# Altium footprint library mw.PcbLib: 252 footprints (part 2 of 16)
Each footprint in its own frame and in the unit in brackets; x right, y up, seen from the top. Pads: shape width x height; smd on the part's side, far side on the other; paste and mask are expansions set on the pad; w line width, h text height; cw(c..) or ccw(c..) is an arc to the next point about the centre after c.
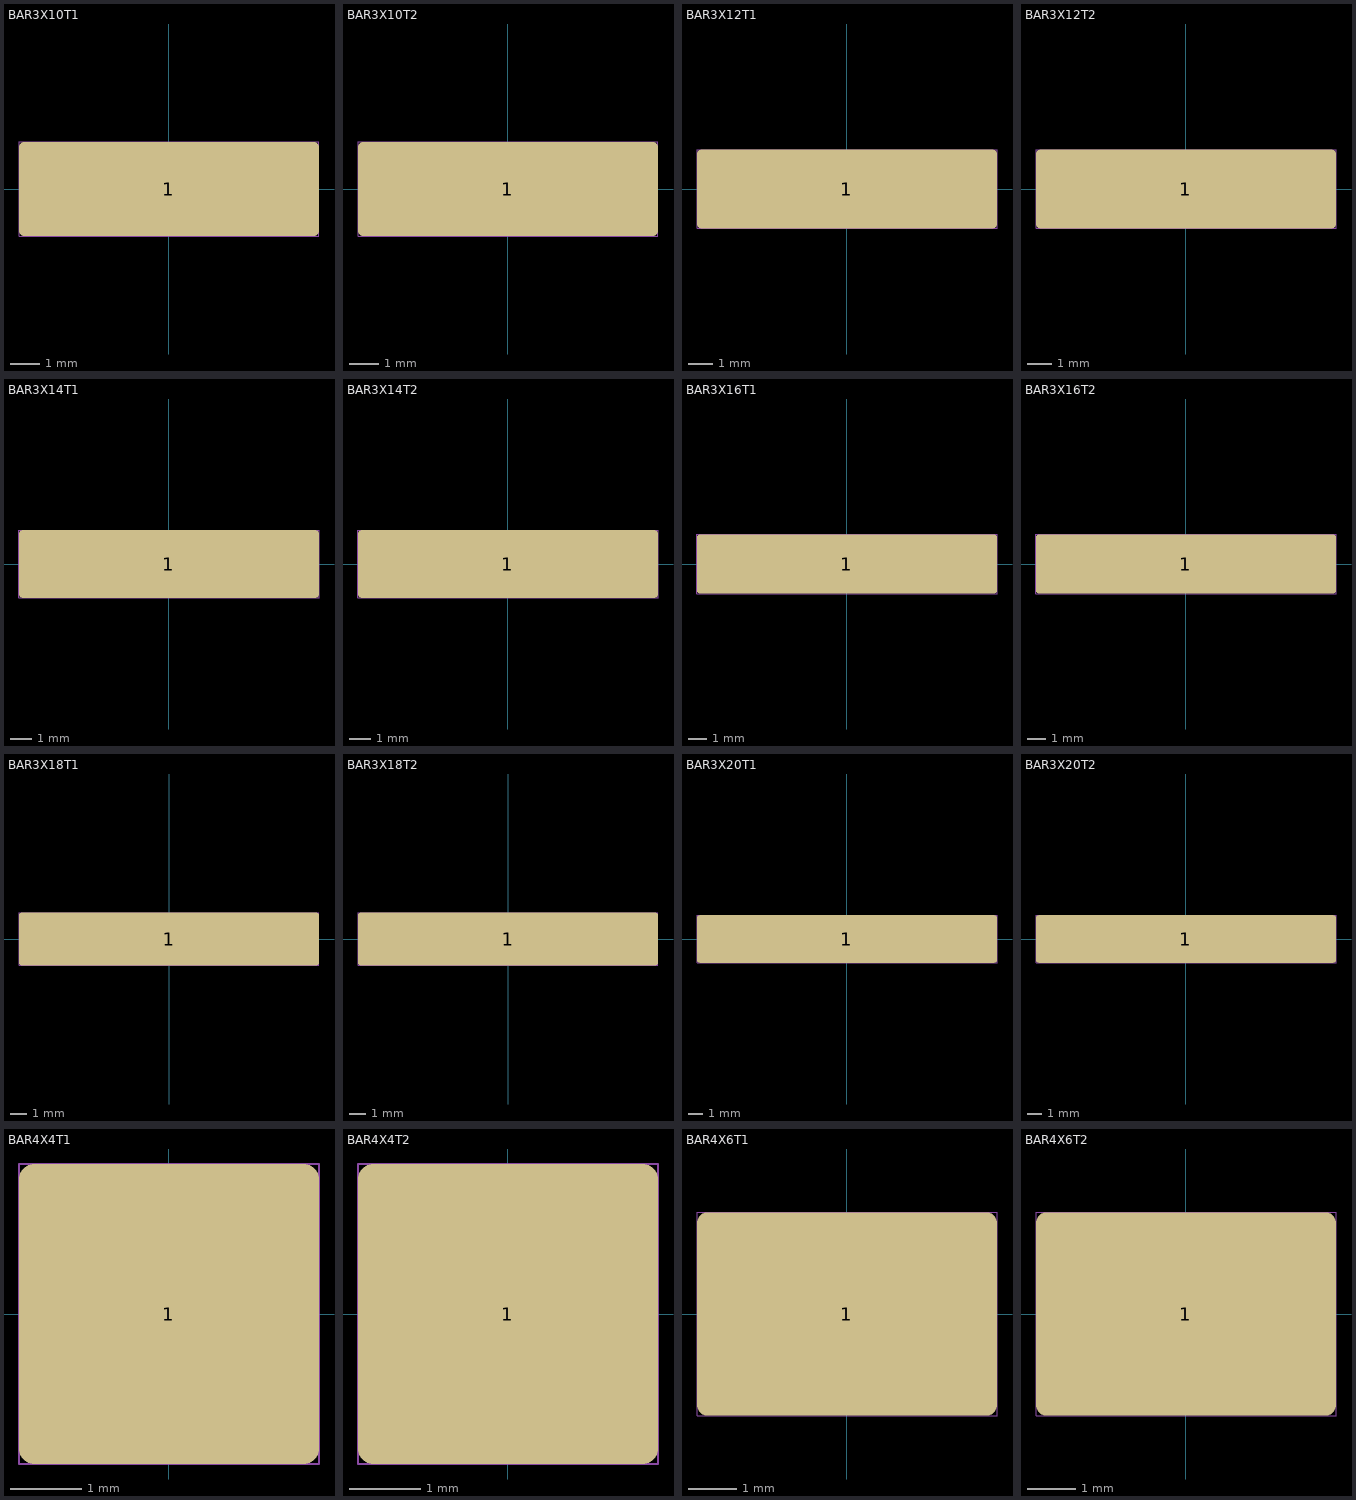
[diagram p1: the footprints below, top view; thin cyan lines are the x and y axes]

## BAR3X10T1 [mm]
pads (1):
  rrect10% 10.2x3.2 smd paste-2539.97: 1(0,0)
Top Paste:
  rectangle: 0.3,-1.3 1.3,-0.3
  rectangle: -1.3,-1.3 -0.3,-0.3
  rectangle: 0.3,0.3 1.3,1.3
  rectangle: -1.3,0.3 -0.3,1.3
  rectangle: 1.9,-1.3 2.9,-0.3
  rectangle: 1.9,0.3 2.9,1.3
  rectangle: -2.9,-1.3 -1.9,-0.3
  rectangle: -2.9,0.3 -1.9,1.3
  rectangle: 3.5,-1.3 4.5,-0.3
  rectangle: 3.5,0.3 4.5,1.3
  rectangle: -4.5,-1.3 -3.5,-0.3
  rectangle: -4.5,0.3 -3.5,1.3
Top Courtyard:
  lines w0.025: -0.635,0 0.635,0 ; 0,-0.635 0,0.635 ; -5.1,-1.6 -5.1,1.6 5.1,1.6 5.1,-1.6 -5.1,-1.6
3D body "BAR3X10T1.step": height 1, standoff 0, extent -5,-1.5 5,1.5

## BAR3X10T2 [mm]
pads (1):
  rrect10% 10.2x3.2 smd paste-2539.97: 1(0,0)
Top Paste:
  rectangle: 0.3,-1.3 1.3,-0.3
  rectangle: -1.3,-1.3 -0.3,-0.3
  rectangle: 0.3,0.3 1.3,1.3
  rectangle: -1.3,0.3 -0.3,1.3
  rectangle: 1.9,-1.3 2.9,-0.3
  rectangle: 1.9,0.3 2.9,1.3
  rectangle: -2.9,-1.3 -1.9,-0.3
  rectangle: -2.9,0.3 -1.9,1.3
  rectangle: 3.5,-1.3 4.5,-0.3
  rectangle: 3.5,0.3 4.5,1.3
  rectangle: -4.5,-1.3 -3.5,-0.3
  rectangle: -4.5,0.3 -3.5,1.3
Top Courtyard:
  lines w0.025: -0.635,0 0.635,0 ; 0,-0.635 0,0.635 ; -5.1,-1.6 5.1,-1.6 5.1,1.6 -5.1,1.6 -5.1,-1.6
3D body "BAR3X10T2.step": height 2, standoff 0, extent -5,-1.5 5,1.5

## BAR3X12T1 [mm]
pads (1):
  rrect10% 12.2x3.2 smd paste-2539.97: 1(0,0)
Top Paste:
  rectangle: 0.3,-1.3 1.3,-0.3
  rectangle: -1.3,-1.3 -0.3,-0.3
  rectangle: 0.3,0.3 1.3,1.3
  rectangle: -1.3,0.3 -0.3,1.3
  rectangle: 1.9,-1.3 2.9,-0.3
  rectangle: 1.9,0.3 2.9,1.3
  rectangle: -2.9,-1.3 -1.9,-0.3
  rectangle: -2.9,0.3 -1.9,1.3
  rectangle: 3.5,-1.3 4.5,-0.3
  rectangle: 3.5,0.3 4.5,1.3
  rectangle: -4.5,-1.3 -3.5,-0.3
  rectangle: -4.5,0.3 -3.5,1.3
Top Courtyard:
  lines w0.025: -0.635,0 0.635,0 ; 0,-0.635 0,0.635 ; -6.1,-1.6 6.1,-1.6 6.1,1.6 -6.1,1.6 -6.1,-1.6
3D body "BAR3X12T1.step": height 1, standoff 0, extent -6,-1.5 6,1.5

## BAR3X12T2 [mm]
pads (1):
  rrect10% 12.2x3.2 smd paste-2539.97: 1(0,0)
Top Paste:
  rectangle: 0.3,-1.3 1.3,-0.3
  rectangle: -1.3,-1.3 -0.3,-0.3
  rectangle: 0.3,0.3 1.3,1.3
  rectangle: -1.3,0.3 -0.3,1.3
  rectangle: 1.9,-1.3 2.9,-0.3
  rectangle: 1.9,0.3 2.9,1.3
  rectangle: -2.9,-1.3 -1.9,-0.3
  rectangle: -2.9,0.3 -1.9,1.3
  rectangle: 3.5,-1.3 4.5,-0.3
  rectangle: 3.5,0.3 4.5,1.3
  rectangle: -4.5,-1.3 -3.5,-0.3
  rectangle: -4.5,0.3 -3.5,1.3
Top Courtyard:
  lines w0.025: -0.635,0 0.635,0 ; 0,-0.635 0,0.635 ; -6.1,-1.6 6.1,-1.6 6.1,1.6 -6.1,1.6 -6.1,-1.6
3D body "BAR3X12T2.step": height 2, standoff 0, extent -6,-1.5 6,1.5

## BAR3X14T1 [mm]
pads (1):
  rrect10% 14.2x3.2 smd paste-2539.97: 1(0,0)
Top Paste:
  rectangle: 0.3,-1.3 1.3,-0.3
  rectangle: -1.3,-1.3 -0.3,-0.3
  rectangle: 0.3,0.3 1.3,1.3
  rectangle: -1.3,0.3 -0.3,1.3
  rectangle: 1.9,-1.3 2.9,-0.3
  rectangle: 1.9,0.3 2.9,1.3
  rectangle: -2.9,-1.3 -1.9,-0.3
  rectangle: -2.9,0.3 -1.9,1.3
  rectangle: 3.5,-1.3 4.5,-0.3
  rectangle: 3.5,0.3 4.5,1.3
  rectangle: -4.5,-1.3 -3.5,-0.3
  rectangle: -4.5,0.3 -3.5,1.3
  rectangle: 5.1,-1.3 6.1,-0.3
  rectangle: 5.1,0.3 6.1,1.3
  rectangle: -6.1,-1.3 -5.1,-0.3
  rectangle: -6.1,0.3 -5.1,1.3
Top Courtyard:
  lines w0.025: -0.635,0 0.635,0 ; 0,-0.635 0,0.635 ; -7.1,-1.6 -7.1,1.6 7.1,1.6 7.1,-1.6 -7.1,-1.6
3D body "BAR3X14T1.step": height 1, standoff 0, extent -7,-1.5 7,1.5

## BAR3X14T2 [mm]
pads (1):
  rrect10% 14.2x3.2 smd paste-2539.97: 1(0,0)
Top Paste:
  rectangle: 0.3,-1.3 1.3,-0.3
  rectangle: -1.3,-1.3 -0.3,-0.3
  rectangle: 0.3,0.3 1.3,1.3
  rectangle: -1.3,0.3 -0.3,1.3
  rectangle: 1.9,-1.3 2.9,-0.3
  rectangle: 1.9,0.3 2.9,1.3
  rectangle: -2.9,-1.3 -1.9,-0.3
  rectangle: -2.9,0.3 -1.9,1.3
  rectangle: 3.5,-1.3 4.5,-0.3
  rectangle: 3.5,0.3 4.5,1.3
  rectangle: -4.5,-1.3 -3.5,-0.3
  rectangle: -4.5,0.3 -3.5,1.3
  rectangle: 5.1,-1.3 6.1,-0.3
  rectangle: 5.1,0.3 6.1,1.3
  rectangle: -6.1,-1.3 -5.1,-0.3
  rectangle: -6.1,0.3 -5.1,1.3
Top Courtyard:
  lines w0.025: -0.635,0 0.635,0 ; 0,-0.635 0,0.635 ; -7.1,-1.6 7.1,-1.6 7.1,1.6 -7.1,1.6 -7.1,-1.6
3D body "BAR3X14T2.step": height 2, standoff 0, extent -7,-1.5 7,1.5

## BAR3X16T1 [mm]
pads (1):
  rrect10% 16.2x3.2 smd paste-2539.97: 1(0,0)
Top Paste:
  rectangle: 0.3,-1.3 1.3,-0.3
  rectangle: -1.3,-1.3 -0.3,-0.3
  rectangle: 0.3,0.3 1.3,1.3
  rectangle: -1.3,0.3 -0.3,1.3
  rectangle: 1.9,-1.3 2.9,-0.3
  rectangle: 1.9,0.3 2.9,1.3
  rectangle: -2.9,-1.3 -1.9,-0.3
  rectangle: -2.9,0.3 -1.9,1.3
  rectangle: 3.5,-1.3 4.5,-0.3
  rectangle: 3.5,0.3 4.5,1.3
  rectangle: -4.5,-1.3 -3.5,-0.3
  rectangle: -4.5,0.3 -3.5,1.3
  rectangle: 5.1,-1.3 6.1,-0.3
  rectangle: 5.1,0.3 6.1,1.3
  rectangle: -6.1,-1.3 -5.1,-0.3
  rectangle: -6.1,0.3 -5.1,1.3
  rectangle: 6.7,-1.3 7.7,-0.3
  rectangle: 6.7,0.3 7.7,1.3
  rectangle: -7.7,-1.3 -6.7,-0.3
  rectangle: -7.7,0.3 -6.7,1.3
Top Courtyard:
  lines w0.025: -0.635,0 0.635,0 ; 0,-0.635 0,0.635 ; -8.1,-1.6 -8.1,1.6 8.1,1.6 8.1,-1.6 -8.1,-1.6
3D body "BAR3X16T1.step": height 1, standoff 0, extent -8,-1.5 8,1.5

## BAR3X16T2 [mm]
pads (1):
  rrect10% 16.2x3.2 smd paste-2539.97: 1(0,0)
Top Paste:
  rectangle: 0.3,-1.3 1.3,-0.3
  rectangle: -1.3,-1.3 -0.3,-0.3
  rectangle: 0.3,0.3 1.3,1.3
  rectangle: -1.3,0.3 -0.3,1.3
  rectangle: 1.9,-1.3 2.9,-0.3
  rectangle: 1.9,0.3 2.9,1.3
  rectangle: -2.9,-1.3 -1.9,-0.3
  rectangle: -2.9,0.3 -1.9,1.3
  rectangle: 3.5,-1.3 4.5,-0.3
  rectangle: 3.5,0.3 4.5,1.3
  rectangle: -4.5,-1.3 -3.5,-0.3
  rectangle: -4.5,0.3 -3.5,1.3
  rectangle: 5.1,-1.3 6.1,-0.3
  rectangle: 5.1,0.3 6.1,1.3
  rectangle: -6.1,-1.3 -5.1,-0.3
  rectangle: -6.1,0.3 -5.1,1.3
  rectangle: 6.7,-1.3 7.7,-0.3
  rectangle: 6.7,0.3 7.7,1.3
  rectangle: -7.7,-1.3 -6.7,-0.3
  rectangle: -7.7,0.3 -6.7,1.3
Top Courtyard:
  lines w0.025: -0.635,0 0.635,0 ; 0,-0.635 0,0.635 ; -8.1,-1.6 8.1,-1.6 8.1,1.6 -8.1,1.6 -8.1,-1.6
3D body "BAR3X16T2.step": height 2, standoff 0, extent -8,-1.5 8,1.5

## BAR3X18T1 [mm]
pads (1):
  rrect10% 18.2x3.2 smd paste-2539.97: 1(0,0)
Top Paste:
  rectangle: 0.3,-1.3 1.3,-0.3
  rectangle: -1.3,-1.3 -0.3,-0.3
  rectangle: 0.3,0.3 1.3,1.3
  rectangle: -1.3,0.3 -0.3,1.3
  rectangle: 1.9,-1.3 2.9,-0.3
  rectangle: 1.9,0.3 2.9,1.3
  rectangle: -2.9,-1.3 -1.9,-0.3
  rectangle: -2.9,0.3 -1.9,1.3
  rectangle: 3.5,-1.3 4.5,-0.3
  rectangle: 3.5,0.3 4.5,1.3
  rectangle: -4.5,-1.3 -3.5,-0.3
  rectangle: -4.5,0.3 -3.5,1.3
  rectangle: 5.1,-1.3 6.1,-0.3
  rectangle: 5.1,0.3 6.1,1.3
  rectangle: -6.1,-1.3 -5.1,-0.3
  rectangle: -6.1,0.3 -5.1,1.3
  rectangle: 6.7,-1.3 7.7,-0.3
  rectangle: 6.7,0.3 7.7,1.3
  rectangle: -7.7,-1.3 -6.7,-0.3
  rectangle: -7.7,0.3 -6.7,1.3
Top Courtyard:
  lines w0.025: -0.635,0 0.635,0 ; 0,-0.635 0,0.635 ; -9.1,-1.6 -9.1,1.6 9.1,1.6 9.1,-1.6 -9.1,-1.6
3D body "BAR3X18T1.step": height 1, standoff 0, extent -9,-1.5 9,1.5

## BAR3X18T2 [mm]
pads (1):
  rrect10% 18.2x3.2 smd paste-2539.97: 1(0,0)
Top Paste:
  rectangle: 0.3,-1.3 1.3,-0.3
  rectangle: -1.3,-1.3 -0.3,-0.3
  rectangle: 0.3,0.3 1.3,1.3
  rectangle: -1.3,0.3 -0.3,1.3
  rectangle: 1.9,-1.3 2.9,-0.3
  rectangle: 1.9,0.3 2.9,1.3
  rectangle: -2.9,-1.3 -1.9,-0.3
  rectangle: -2.9,0.3 -1.9,1.3
  rectangle: 3.5,-1.3 4.5,-0.3
  rectangle: 3.5,0.3 4.5,1.3
  rectangle: -4.5,-1.3 -3.5,-0.3
  rectangle: -4.5,0.3 -3.5,1.3
  rectangle: 5.1,-1.3 6.1,-0.3
  rectangle: 5.1,0.3 6.1,1.3
  rectangle: -6.1,-1.3 -5.1,-0.3
  rectangle: -6.1,0.3 -5.1,1.3
  rectangle: 6.7,-1.3 7.7,-0.3
  rectangle: 6.7,0.3 7.7,1.3
  rectangle: -7.7,-1.3 -6.7,-0.3
  rectangle: -7.7,0.3 -6.7,1.3
Top Courtyard:
  lines w0.025: -0.635,0 0.635,0 ; 0,-0.635 0,0.635 ; -9.1,-1.6 -9.1,1.6 9.1,1.6 9.1,-1.6 -9.1,-1.6
3D body "BAR3X18T2.step": height 2, standoff 0, extent -9,-1.5 9,1.5

## BAR3X20T1 [mm]
pads (1):
  rrect10% 20.2x3.2 smd paste-2539.97: 1(0,0)
Top Paste:
  rectangle: 0.3,-1.3 1.3,-0.3
  rectangle: -1.3,-1.3 -0.3,-0.3
  rectangle: 0.3,0.3 1.3,1.3
  rectangle: -1.3,0.3 -0.3,1.3
  rectangle: 1.9,-1.3 2.9,-0.3
  rectangle: 1.9,0.3 2.9,1.3
  rectangle: -2.9,-1.3 -1.9,-0.3
  rectangle: -2.9,0.3 -1.9,1.3
  rectangle: 3.5,-1.3 4.5,-0.3
  rectangle: 3.5,0.3 4.5,1.3
  rectangle: -4.5,-1.3 -3.5,-0.3
  rectangle: -4.5,0.3 -3.5,1.3
  rectangle: 5.1,-1.3 6.1,-0.3
  rectangle: 5.1,0.3 6.1,1.3
  rectangle: -6.1,-1.3 -5.1,-0.3
  rectangle: -6.1,0.3 -5.1,1.3
  rectangle: 6.7,-1.3 7.7,-0.3
  rectangle: 6.7,0.3 7.7,1.3
  rectangle: -7.7,-1.3 -6.7,-0.3
  rectangle: -7.7,0.3 -6.7,1.3
  rectangle: 8.3,-1.3 9.3,-0.3
  rectangle: 8.3,0.3 9.3,1.3
  rectangle: -9.3,-1.3 -8.3,-0.3
  rectangle: -9.3,0.3 -8.3,1.3
Top Courtyard:
  lines w0.025: -0.635,0 0.635,0 ; 0,-0.635 0,0.635 ; -10.1,-1.6 10.1,-1.6 10.1,1.6 -10.1,1.6 -10.1,-1.6
3D body "BAR3X20T1.step": height 1, standoff 0, extent -10,-1.5 10,1.5

## BAR3X20T2 [mm]
pads (1):
  rrect10% 20.2x3.2 smd paste-2539.97: 1(0,0)
Top Paste:
  rectangle: 0.3,-1.3 1.3,-0.3
  rectangle: -1.3,-1.3 -0.3,-0.3
  rectangle: 0.3,0.3 1.3,1.3
  rectangle: -1.3,0.3 -0.3,1.3
  rectangle: 1.9,-1.3 2.9,-0.3
  rectangle: 1.9,0.3 2.9,1.3
  rectangle: -2.9,-1.3 -1.9,-0.3
  rectangle: -2.9,0.3 -1.9,1.3
  rectangle: 3.5,-1.3 4.5,-0.3
  rectangle: 3.5,0.3 4.5,1.3
  rectangle: -4.5,-1.3 -3.5,-0.3
  rectangle: -4.5,0.3 -3.5,1.3
  rectangle: 5.1,-1.3 6.1,-0.3
  rectangle: 5.1,0.3 6.1,1.3
  rectangle: -6.1,-1.3 -5.1,-0.3
  rectangle: -6.1,0.3 -5.1,1.3
  rectangle: 6.7,-1.3 7.7,-0.3
  rectangle: 6.7,0.3 7.7,1.3
  rectangle: -7.7,-1.3 -6.7,-0.3
  rectangle: -7.7,0.3 -6.7,1.3
  rectangle: 8.3,-1.3 9.3,-0.3
  rectangle: 8.3,0.3 9.3,1.3
  rectangle: -9.3,-1.3 -8.3,-0.3
  rectangle: -9.3,0.3 -8.3,1.3
Top Courtyard:
  lines w0.025: -0.635,0 0.635,0 ; 0,-0.635 0,0.635 ; -10.1,-1.6 10.1,-1.6 10.1,1.6 -10.1,1.6 -10.1,-1.6
3D body "BAR3X20T2.step": height 2, standoff 0, extent -10,-1.5 10,1.5

## BAR4X4T1 [mm]
pads (1):
  rrect10% 4.2x4.2 smd paste-2539.97: 1(0,0)
Top Paste:
  rectangle: 0.35,-1.65 1.65,-0.35
  rectangle: -1.65,-1.65 -0.35,-0.35
  rectangle: -1.65,0.35 -0.35,1.65
  rectangle: 0.35,0.35 1.65,1.65
Top Courtyard:
  lines w0.025: -0.635,0 0.635,0 ; 0,-0.635 0,0.635 ; -2.1,-2.1 -2.1,2.1 2.1,2.1 2.1,-2.1 -2.1,-2.1
3D body "BAR4X4T1.step": height 1, standoff 0, extent -2,-2 2,2

## BAR4X4T2 [mm]
pads (1):
  rrect10% 4.2x4.2 smd paste-2539.97: 1(0,0)
Top Paste:
  rectangle: 0.35,-1.65 1.65,-0.35
  rectangle: -1.65,-1.65 -0.35,-0.35
  rectangle: -1.65,0.35 -0.35,1.65
  rectangle: 0.35,0.35 1.65,1.65
Top Courtyard:
  lines w0.025: -0.635,0 0.635,0 ; 0,-0.635 0,0.635 ; -2.1,-2.1 2.1,-2.1 2.1,2.1 -2.1,2.1 -2.1,-2.1
3D body "BAR4X4T2.step": height 2, standoff 0, extent -2,-2 2,2

## BAR4X6T1 [mm]
pads (1):
  rrect10% 6.2x4.2 smd paste-2539.97: 1(0,0)
Top Paste:
  rectangle: 0.35,-1.65 1.65,-0.35
  rectangle: -1.65,-1.65 -0.35,-0.35
  rectangle: -1.65,0.35 -0.35,1.65
  rectangle: 0.35,0.35 1.65,1.65
Top Courtyard:
  lines w0.025: -0.635,0 0.635,0 ; 0,-0.635 0,0.635 ; -3.1,-2.1 -3.1,2.1 3.1,2.1 3.1,-2.1 -3.1,-2.1
3D body "BAR4X6T1.step": height 1, standoff 0, extent -3,-2 3,2

## BAR4X6T2 [mm]
pads (1):
  rrect10% 6.2x4.2 smd paste-2539.97: 1(0,0)
Top Paste:
  rectangle: 0.35,-1.65 1.65,-0.35
  rectangle: -1.65,-1.65 -0.35,-0.35
  rectangle: -1.65,0.35 -0.35,1.65
  rectangle: 0.35,0.35 1.65,1.65
Top Courtyard:
  lines w0.025: -0.635,0 0.635,0 ; 0,-0.635 0,0.635 ; -3.1,-2.1 3.1,-2.1 3.1,2.1 -3.1,2.1 -3.1,-2.1
3D body "BAR4X6T2.step": height 2, standoff 0, extent -3,-2 3,2